# Altium schematic symbol library LESD8D3.3CAT5G.SchLib: 1 symbol
Pins are listed as number, name and electrical type; pins without a type are passive.

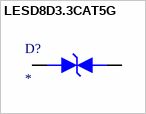
[diagram p0: symbol LESD8D3.3CAT5G]

## LESD8D3.3CAT5G
designator D?
footprint SOD-882
pins: 1, 2